# EAGLE library part CLM-112-02-L-D (library daqcs_host)
MICRO SOCKET, 1.0MM, SMD, 2X12WAY
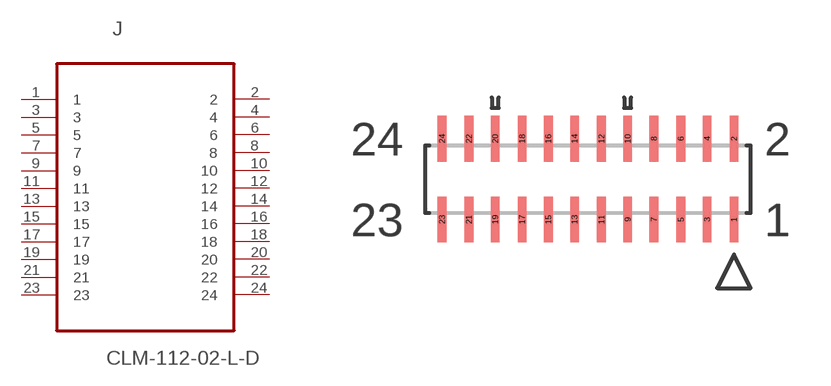
[diagram p8: symbol with the pads of SAMTEC_CLM-112-02-L-D; footprint SAMTEC_CLM-112-02-L-D]

Designator prefix J

## CLM-112-02-L-D (MANUFACTURER: SAMTEC; MANUFACTURER_PN: CLM-112-02-L-D; PACKAGE: MICRO SOCKET, 1.0MM, SMD, 2X12WAY; VENDOR: Digi-key; VENDOR_PN: SAM1129-12-ND)  [SAMTEC_CLM-112-02-L-D]
1  1  pas
2  2  pas
3  3  pas
4  4  pas
5  5  pas
6  6  pas
7  7  pas
8  8  pas
9  9  pas
10  10  pas
11  11  pas
12  12  pas
13  13  pas
14  14  pas
15  15  pas
16  16  pas
17  17  pas
18  18  pas
19  19  pas
20  20  pas
21  21  pas
22  22  pas
23  23  pas
24  24  pas

## Footprint SAMTEC_CLM-112-02-L-D (pad centres in mm)
smd 0.33 x 1.727: 1 5.512,-1.524; 2 5.512,1.524; 3 4.496,-1.524; 4 4.496,1.524; 5 3.505,-1.524; 6 3.505,1.524; 7 2.489,-1.524; 8 2.489,1.524; 9 1.499,-1.524; 10 1.499,1.524; 11 0.508,-1.524; 12 0.508,1.524; 13 -0.508,-1.524; 14 -0.508,1.524; 15 -1.499,-1.524; 16 -1.499,1.524; 17 -2.489,-1.524; 18 -2.489,1.524; 19 -3.505,-1.524; 20 -3.505,1.524; 21 -4.496,-1.524; 22 -4.496,1.524; 23 -5.512,-1.524; 24 -5.512,1.524